# Altium schematic symbol library Capacitors.SchLib: 2 symbols
Pins are listed as number, name and electrical type; pins without a type are passive.

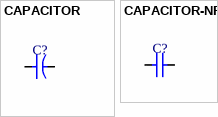
[diagram p0: symbols CAPACITOR to CAPACITOR-NP]

## CAPACITOR
designator C?, comment CAP  (value not drawn)
Capacitor
footprint CAP-8x12 (Footprint not found)
footprint CAP-5x11 (Footprint not found)
footprint CAP-8x15-H-10-MIR
footprint CAP-8x15-H-2-MIR
footprint CAP-8x15-H-2
footprint CAP-8x15-H-5-MIR
footprint CAP-8x15-H-5
footprint CAP-8x15-H-10
footprint CAP-10x9
footprint CAP-10x13
footprint CAP-10x16
footprint CAP-13x15
footprint CAP-13x20
footprint CAP-13x25
footprint CAP-13x30
footprint CAP-13x35
footprint CAP-16x12
footprint CAP-16x20
footprint CAP-16x25
footprint CAP-16x30
footprint CAP-16x35
footprint CAP-10x9-H-0
footprint CAP-10x9-H-2
footprint CAP-10x9-H-5
footprint CAP-10x9-H-10
footprint CAP-10x13-H-0
footprint CAP-10x13-H-2
footprint CAP-10x13-H-5
footprint CAP-10x13-H-10
footprint CAP-10x15-H-0
footprint CAP-10x15-H-2
footprint CAP-10x15-H-5
footprint CAP-10x15-H-10 (Footprint not found)
footprint CAP-10x20-H-0
footprint CAP-10x20-H-2
footprint CAP-10x20-H-5
footprint CAP-10x20-H-10
footprint CAP-10x9-H-0-MIR
footprint CAP-10x9-H-2-MIR
footprint CAP-10x9-H-5-MIR
footprint CAP-10x9-H-10-MIR
footprint CAP-10x13-H-0-MIR
footprint CAP-10x13-H-2-MIR
footprint CAP-10x13-H-5-MIR
footprint CAP-10x13-H-10-MIR
footprint CAP-10x15-H-0-MIR
footprint CAP-10x15-H-2-MIR
footprint CAP-10x15-H-5-MIR
footprint CAP-10x15-H-10-MIR
footprint CAP-10x20-H-0-MIR
footprint CAP-10x20-H-2-MIR
footprint CAP-10x20-H-5-MIR
footprint CAP-10x20-H-10-MIR
footprint CAP-13x25-H-0
footprint CAP-13x25-H-2
footprint CAP-13x25-H-5
footprint CAP-13x25-H-5
footprint CAP-13x15-H-0
footprint CAP-13x15-H-2
footprint CAP-13x15-H-5
footprint CAP-13x15-H-10
footprint CAP-13x20-H-0
footprint CAP-13x20-H-2
footprint CAP-13x20-H-5
footprint CAP-13x20-H-10
footprint CAP-13x30-H-0
footprint CAP-13x30-H-2
footprint CAP-13x30-H-5
footprint CAP-13x30-H-10
footprint CAP-13x35-H-0
footprint CAP-13x35-H-2
footprint CAP-13x35-H-5
footprint CAP-13x35-H-10
pins: 1, 2

## CAPACITOR-NP
designator C?
Capacitor
footprint CAP-0805
footprint CAP-0603
footprint CBB-15MM
footprint CBB-20MM
footprint CBB-5MM
footprint CBB-20MM-H
pins: 1, 2